# Altium footprint library Heatsinks.PcbLib: 5 footprints
Each footprint in its own frame and in the unit in brackets; x right, y up, seen from the top. Pads: shape width x height; smd on the part's side, far side on the other; paste and mask are expansions set on the pad; w line width, h text height; cw(c..) or ccw(c..) is an arc to the next point about the centre after c.
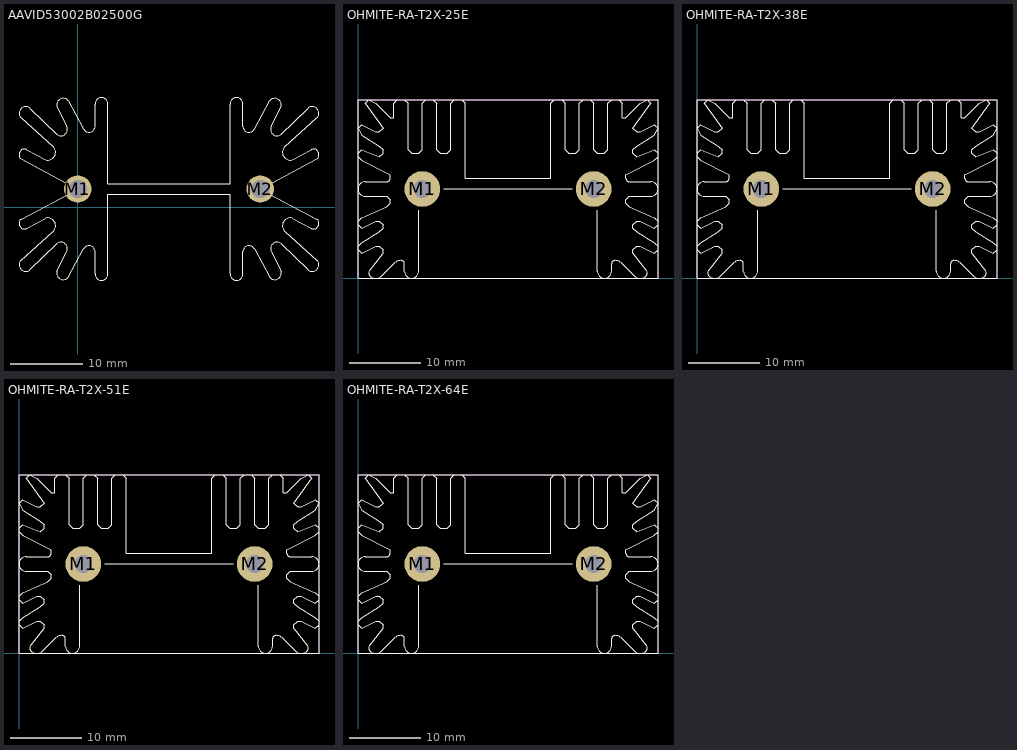
[diagram p0: the footprints below, top view; thin cyan lines are the x and y axes]

## AAVID53002B02500G [mm]
pads (2):
  round 3.81 hole 2.54 unplated: M1(0,2.54) M2(25.4,2.54)
Top Overlay:
  lines w0.152: -7.112,-2.921 -4.445,-1.524 cw(c-4.18,-2.584) -3.498,-3.437 -7.887,-7.353 ccw(c-7.239,-8.001) -6.591,-8.649 -2.921,-5.08 cw(c-2.334,-5.764) -1.55,-6.208 -2.898,-8.897 ccw(c-2.019,-9.157) -1.304,-9.729 0.799,-5.842 cw(c1.561,-6.223) 2.413,-6.223 2.413,-9.271 ccw(c3.302,-9.271) 4.191,-9.271 4.191,1.778 12.7,1.778 21.209,1.778 21.209,-9.271 ccw(c22.098,-9.271) 22.987,-9.271 22.987,-6.223 cw(c23.839,-6.223) 24.601,-5.842 26.704,-9.729 ccw(c27.419,-9.157) 28.298,-8.897 26.95,-6.208 cw(c27.734,-5.764) 28.321,-5.08 31.991,-8.649 ccw(c32.639,-8.001) 33.287,-7.353 28.898,-3.437 cw(c29.58,-2.584) 29.845,-1.524 32.512,-2.921 ; -7.112,8.001 -4.445,6.604 ccw(c-4.18,7.664) -3.498,8.517 -7.887,12.433 cw(c-7.239,13.081) -6.591,13.729 -2.921,10.16 ccw(c-2.334,10.844) -1.55,11.288 -2.898,13.977 cw(c-2.019,14.237) -1.304,14.809 0.799,10.922 ccw(c1.561,11.303) 2.413,11.303 2.413,14.351 cw(c3.302,14.351) 4.191,14.351 4.191,3.302 12.7,3.302 21.209,3.302 21.209,14.351 cw(c22.098,14.351) 22.987,14.351 22.987,11.303 ccw(c23.839,11.303) 24.601,10.922 26.704,14.809 cw(c27.419,14.237) 28.298,13.977 26.95,11.288 ccw(c27.734,10.844) 28.321,10.16 31.991,13.729 cw(c32.639,13.081) 33.287,12.433 28.898,8.517 ccw(c29.58,7.664) 29.845,6.604 32.512,8.001 ; -7.076,-2.942 cw(c-7.417,-2.261) -7.874,-1.651 0,2.54 -7.874,6.731 cw(c-7.417,7.341) -7.076,8.022 ; 32.476,-2.942 ccw(c32.817,-2.261) 33.274,-1.651 25.4,2.54 33.274,6.731 ccw(c32.817,7.341) 32.476,8.022
3D body: height 0.51, standoff -3.05, extent 24.13,1.27 26.66,3.805
3D body: height 0.51, standoff -3.05, extent -1.27,1.27 1.26,3.805
3D body: height 63.5, standoff 0, extent 4.191,1.778 21.209,3.302
3D body: height 63.5, standoff 0, extent -8.255,-10.16 4.191,2.54
3D body: height 63.5, standoff 0, extent -8.255,2.54 4.191,15.24
3D body: height 63.5, standoff 0, extent 21.209,2.54 33.655,15.24
3D body: height 63.5, standoff 0, extent 21.209,-10.16 33.655,2.54
3D body: height 0.51, standoff -3.05, extent 24.13,1.27 26.66,3.805

## OHMITE-RA-T2X-25E [mm]
pads (2):
  round 5 hole 2.5 unplated mask+0.051: M1(9,12.5) M2(33,12.5)
Top Overlay:
  drawing of 169 lines, arcs and shapes, not listed
Mechanical 1:
  lines w0.152: 0,0 42,0 42,25 0,25 0,0
3D body: height 4.34, standoff -0.56, extent 0,12.5 21,25
3D body: height 4.34, standoff -0.56, extent 0,0 8.5,12.5
3D body: height 4.34, standoff -0.56, extent 33.5,0 42,12.5
3D body: height 4.34, standoff -0.56, extent 21,12.5 42,25
3D body: height 0, standoff -3.05, extent 8.004,11.5 9.996,13.496
3D body: height 0, standoff -3.05, extent 32.004,11.5 33.996,13.496

## OHMITE-RA-T2X-38E [mm]
pads (2):
  round 5 hole 2.5 unplated mask+0.051: M1(9,12.5) M2(33,12.5)
Top Overlay:
  drawing of 169 lines, arcs and shapes, not listed
Mechanical 1:
  lines w0.152: 0,0 0,25 42,25 42,0 0,0
3D body: height 0, standoff -3.05, extent 32.004,11.5 33.996,13.496
3D body: height 0, standoff -3.05, extent 8.004,11.5 9.996,13.496
3D body: height 4.34, standoff -0.56, extent 21,12.5 42,25
3D body: height 4.34, standoff -0.56, extent 33.5,0 42,12.5
3D body: height 4.34, standoff -0.56, extent 0,0 8.5,12.5
3D body: height 4.34, standoff -0.56, extent 0,12.5 21,25

## OHMITE-RA-T2X-51E [mm]
pads (2):
  round 5 hole 2.5 unplated mask+0.051: M1(9,12.5) M2(33,12.5)
Top Overlay:
  drawing of 169 lines, arcs and shapes, not listed
Mechanical 1:
  lines w0.152: 0,0 0,25 42,25 42,0 0,0
3D body: height 0, standoff -3.05, extent 32.004,11.5 33.996,13.496
3D body: height 0, standoff -3.05, extent 8.004,11.5 9.996,13.496
3D body: height 4.34, standoff -0.56, extent 21,12.5 42,25
3D body: height 4.34, standoff -0.56, extent 33.5,0 42,12.5
3D body: height 4.34, standoff -0.56, extent 0,0 8.5,12.5
3D body: height 4.34, standoff -0.56, extent 0,12.5 21,25

## OHMITE-RA-T2X-64E [mm]
pads (2):
  round 5 hole 2.5 unplated mask+0.051: M1(9,12.5) M2(33,12.5)
Top Overlay:
  drawing of 169 lines, arcs and shapes, not listed
Mechanical 1:
  lines w0.152: 0,0 0,25 42,25 42,0 0,0
3D body: height 0, standoff -3.05, extent 32.004,11.5 33.996,13.496
3D body: height 0, standoff -3.05, extent 8.004,11.5 9.996,13.496
3D body: height 4.34, standoff -0.56, extent 21,12.5 42,25
3D body: height 4.34, standoff -0.56, extent 33.5,0 42,12.5
3D body: height 4.34, standoff -0.56, extent 0,0 8.5,12.5
3D body: height 4.34, standoff -0.56, extent 0,12.5 21,25